# EAGLE library part QY22XX (library rel-imo)
General Purpose Power Relay, 2PCO, 10A, 24VDC, up to 1.1WPCB, NO indication or Test, Bases: SRH2-C, SRP2-0
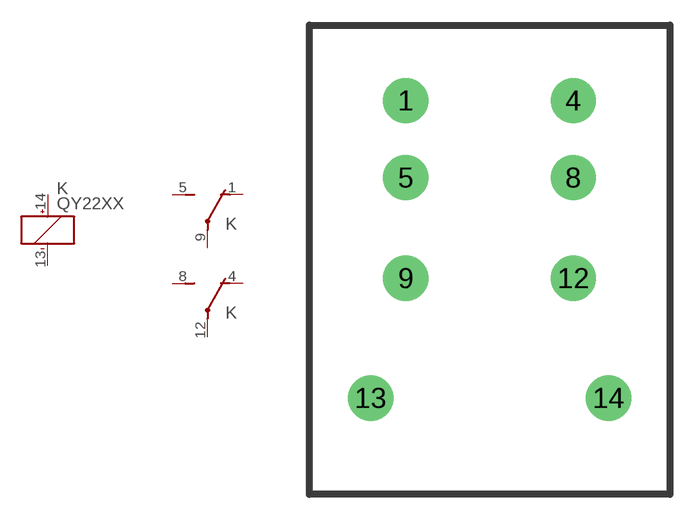
[diagram p0: symbol with the pads of QY22; footprint QY22]

Designator prefix K; gates G$1=K+- G$2=U G$3=U

## QY22XX-110DC, QY22XX-12AC, QY22XX-12DC, QY22XX-24DC, QY22XX-48AC, QY22XX-48DC, QY22XX-5DC, QY22XX-6AC, QY22XX-6DC  [QY22]
1  G$2:O  pas
4  G$3:O  pas
5  G$2:S  pas
8  G$3:S  pas
9  G$2:P  pas
12  G$3:P  pas
13  G$1:-  pas
14  G$1:+  pas

## Footprint QY22 (pad centres in mm)
drill 1.8: 1 -5,9.5; 4 5,9.5; 5 -5,4.9; 8 5,4.9; 9 -5,-1.1; 12 5,-1.1; 13 -7.1,-8.25; 14 7.1,-8.25